# EAGLE library part TPS92624QPWPRQ1 (library TPS92624QPWPRQ1)
TPS92624-Q1 Four-Channel, Automotive High Side LED Driver with Thermal Sharing Control Source: Datasheet <https://www.ti.com/lit/ds/symlink/tps92624-q1.pdf?ts=1694767333380&ref_url=https%3A%2F%2Fwww.ti.com%2Fproduct%2FTPS92624-Q1%2Fpart-details%2FTPS92624QPWPRQ1%3Futm_source%3Dgoogle%26utm_medium%3Dcpc%26utm_campaign%3Docb-tistore-pr>
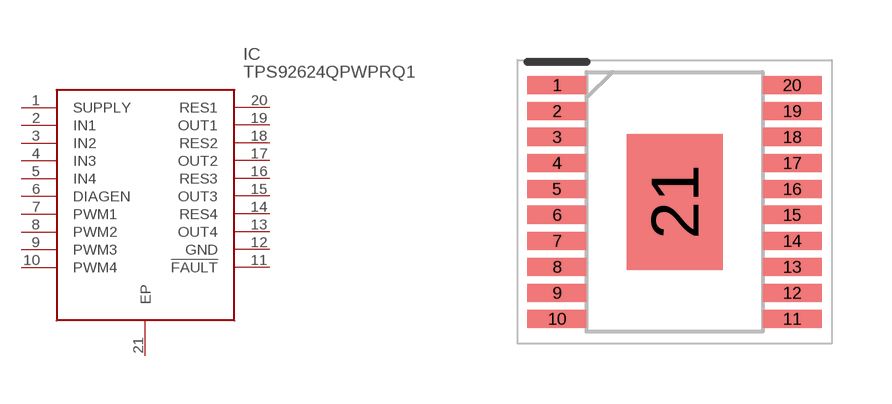
[diagram p0: symbol with the pads of SOP65P640X120-21N; footprint SOP65P640X120-21N]

Designator prefix IC

## TPS92624QPWPRQ1 (Arrow_Part_Number: TPS92624QPWPRQ1; Arrow_Price-Stock: https://www.arrow.com/en/products/tps92624qpwprq1/texas-instruments?utm_currency=USD&region=nac; Description: TPS92624-Q1 Four-Channel, Automotive High Side LED Driver with Thermal Sharing Control; Height: 1.2mm; Manufacturer_Name: Texas Instruments; Manufacturer_Part_Number: TPS92624QPWPRQ1; Mouser_Part_Number: 595-TPS92624QPWPRQ1; Mouser_Price-Stock: https://www.mouser.co.uk/ProductDetail/Texas-Instruments/TPS92624QPWPRQ1?qs=t7xnP681wgUaZydy8rdCYA%3D%3D)  [SOP65P640X120-21N]
1  SUPPLY
2  IN1
3  IN2
4  IN3
5  IN4
6  DIAGEN
7  PWM1
8  PWM2
9  PWM3
10  PWM4
11  !FAULT
12  GND
13  OUT4
14  RES4
15  OUT3
16  RES3
17  OUT2
18  RES2
19  OUT1
20  RES1
21  EP

## Footprint SOP65P640X120-21N (pad centres in mm)
PWP (R-PDSO-G20)
smd 1.475 x 0.45: 1 -2.938,2.925; 2 -2.938,2.275; 3 -2.938,1.625; 4 -2.938,0.975; 5 -2.938,0.325; 6 -2.938,-0.325; 7 -2.938,-0.975; 8 -2.938,-1.625; 9 -2.938,-2.275; 10 -2.938,-2.925; 11 2.938,-2.925; 12 2.938,-2.275; 13 2.938,-1.625; 14 2.938,-0.975; 15 2.938,-0.325; 16 2.938,0.325; 17 2.938,0.975; 18 2.938,1.625; 19 2.938,2.275; 20 2.938,2.925
smd 2.4 x 3.4: 21 0,0